# Altium schematic symbol library RICHTEK-DC-DC-Converters.SchLib: 8 symbols
Pins are listed as number, name and electrical type; pins without a type are passive.

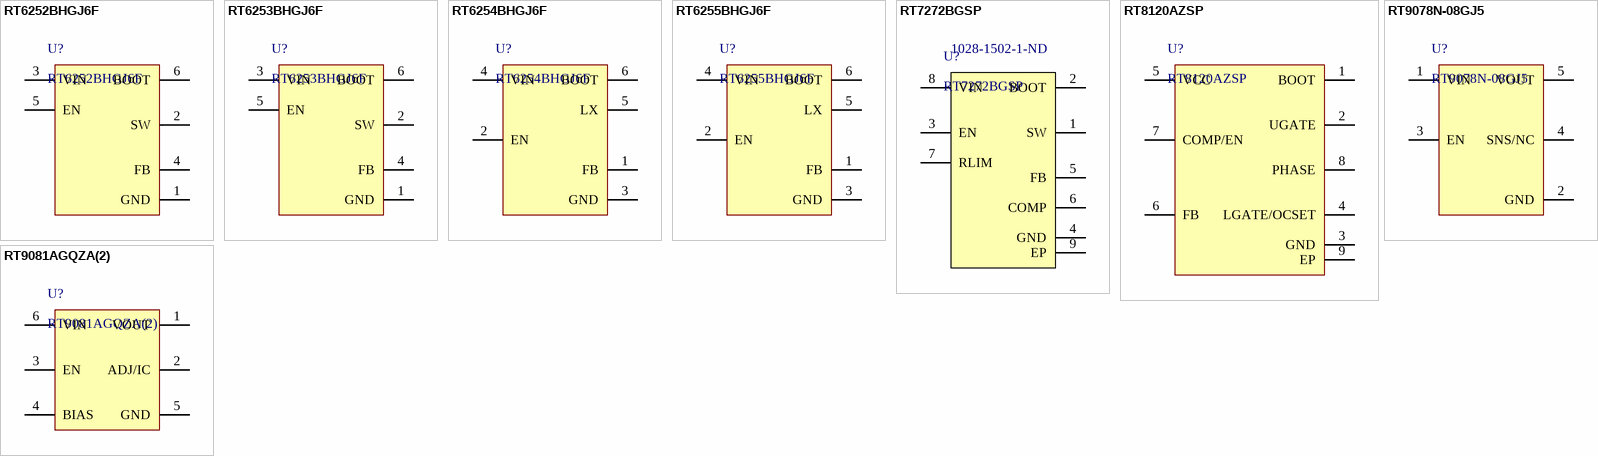
[diagram p0: symbols RT6252BHGJ6F to RT9081AGQZA(2)]

## RT6252BHGJ6F
designator U?
IC Reg Buck Adj 2A TSOT23-6; Manufacturer: Richtek; Supplier: DigiKey; Supplier Part Number: 1028-RT6252BHGJ6FCT-ND; Manufacturer Part Number: RT6252BHGJ6F; RoHS: Compliant; Category: Voltage Regulators - Switching; Stock: 86; Pricing: 1=0,55, 10=0,384, 25=0,344, 100=0,2992, 250=0,27788, 500=0,26506, 1000=0,25448, 3000=0,24142, 6000=0,23503, 9000=0,23183, 15000=0,22828, 21000=0,22621, 30000=0,22422 (USD); Lifecycle Status: Production; REACH SVHC: Yes; ComponentLink1URL: https://datasheet.octopart.com:443/RT6252BHGJ6F-Richtek-datasheet-181203810.pdf?src-supplier=IHS; ComponentLink1Description: https://datasheet.octopart.com:443/RT6252BHGJ6F-Richtek-datasheet-181203810.pdf?src-supplier=IHS
footprint SOT95P280X100-6N (SOT23, 6-Leads, Body 2,90x2,80mm, Pitch 0,95mm, IPC Medium Density)
pins: 1 GND, 2 SW, 3 VIN, 4 FB, 5 EN, 6 BOOT

## RT6253BHGJ6F
designator U?
Switching Regulator, Voltage-mode, 3A, 580kHz Switching Freq-Max, PDSO6; Manufacturer: Richtek; Max Supply Voltage: 17V; Max Output Voltage: 7V; Min Input Voltage: 4.5V; Min Output Voltage: 765mV; Nominal Supply Voltage: 12V; Number of Circuits: 1; Topology: Buck; Supplier: Mouser; Supplier Part Number: 835-RT6253BHGJ6F; Manufacturer Part Number: RT6253BHGJ6F; RoHS: Compliant; Category: Voltage Regulators - Switching; Stock: 5395; Pricing: 1=0,82, 10=0,584, 25=0,526, 50=0,526, 100=0,461, 250=0,431, 500=0,412, 1000=0,379, 3000=0,372, 6000=0,333, 10000=0,333 (USD); Height - Seated (Max): 1mm; Length: 2.8955mm; Lifecycle Status: Production; Max Operating Temperature: 125°C; Max Output current: 3A; Max Switching Frequency: 580kHz; Min Operating Temperature: -40°C; Number of Terminals: 6; REACH SVHC: Yes; Terminal Pitch: 950µm; Width: 1.6mm; ComponentLink1URL: https://datasheet.octopart.com:443/RT6253BHGJ6F-Richtek-datasheet-181203812.pdf?src-supplier=IHS; ComponentLink1Description: https://datasheet.octopart.com:443/RT6253BHGJ6F-Richtek-datasheet-181203812.pdf?src-supplier=IHS
footprint SOT95P280X100-6N (SOT23, 6-Leads, Body 2,90x2,80mm, Pitch 0,95mm, IPC Medium Density)
pins: 1 GND, 2 SW, 3 VIN, 4 FB, 5 EN, 6 BOOT

## RT6254BHGJ6F
designator U?
Switching Regulator, Voltage-mode, 4A, 600kHz Switching Freq-Max, PDSO6; Manufacturer: Richtek; Max Supply Voltage: 18V; Min Input Voltage: 4.5V; Nominal Supply Voltage: 12V; Number of Circuits: 1; Output Voltage: 5V; Topology: Buck; Supplier: DigiKey; Supplier Part Number: RT6254BHGJ6FCT-ND; Manufacturer Part Number: RT6254BHGJ6F; RoHS: Compliant; Category: Voltage Regulators - Switching; Stock: 7274; Pricing: 1=0,92, 10=0,66, 25=0,5948, 100=0,523, 250=0,48872, 500=0,46806, 1000=0,45108, 3000=0,43008, 6000=0,41981, 9000=0,41467, 15000=0,40897, 21000=0,40564 (USD); Height - Seated (Max): 1mm; Length: 2.8955mm; Lifecycle Status: Production; Max Operating Temperature: 85°C; Max Output current: 4A; Max Switching Frequency: 600kHz; Min Operating Temperature: -40°C; Number of Terminals: 6; Output Current: 4A; Packaging: Cut Tape; REACH SVHC: Yes; Terminal Pitch: 950µm; Width: 1.6mm; ComponentLink1URL: https://datasheet.octopart.com:443/RT6254BHGJ6F-Richtek-datasheet-181203814.pdf?src-supplier=IHS; ComponentLink1Description: https://datasheet.octopart.com:443/RT6254BHGJ6F-Richtek-datasheet-181203814.pdf?src-supplier=IHS; ComponentLink2URL: https://datasheet.octopart.com:443/RT6254BHGJ6F-Richtek-datasheet-68554526.pdf?src-supplier=element14+APAC; ComponentLink2Description: https://datasheet.octopart.com:443/RT6254BHGJ6F-Richtek-datasheet-68554526.pdf?src-supplier=element14+APAC; ComponentLink3URL: https://datasheet.octopart.com:443/RT6254BHGJ6F-Richtek-datasheet-68547092.pdf?src-supplier=element14+APAC; ComponentLink3Description: https://datasheet.octopart.com:443/RT6254BHGJ6F-Richtek-datasheet-68547092.pdf?src-supplier=element14+APAC; ComponentLink4URL: https://datasheet.octopart.com:443/RT6254BHGJ6F-Richtek-datasheet-160668474.pdf?src-supplier=Augswan; ComponentLink4Description: https://datasheet.octopart.com:443/RT6254BHGJ6F-Richtek-datasheet-160668474.pdf?src-supplier=Augswan; ComponentLink5URL: https://datasheet.octopart.com:443/RT6254BHGJ6F-Richtek-datasheet-157246478.pdf?src-supplier=LKR; ComponentLink5Description: https://datasheet.octopart.com:443/RT6254BHGJ6F-Richtek-datasheet-157246478.pdf?src-supplier=LKR
footprint SOT95P280X100-6N (SOT23, 6-Leads, Body 2,90x2,80mm, Pitch 0,95mm, IPC Medium Density)
pins: 1 FB, 2 EN, 3 GND, 4 VIN, 5 LX, 6 BOOT

## RT6255BHGJ6F
designator U?
Switching Regulator, 5A, 600kHz Switching Freq-Max, PDSO6; Manufacturer: Richtek; Max Supply Voltage: 18V; Max Output Voltage: 5V; Min Input Voltage: 4.5V; Min Output Voltage: 600mV; Nominal Supply Voltage: 12V; Number of Circuits: 1; Topology: Buck; Supplier: DigiKey; Supplier Part Number: RT6255BHGJ6FCT-ND; Manufacturer Part Number: RT6255BHGJ6F; RoHS: Compliant; Category: Voltage Regulators - Switching; Stock: 1662; Pricing: 1=1,07, 10=0,772, 25=0,6972, 100=0,6148, 250=0,57552, 500=0,55186, 1000=0,53237, 3000=0,50829, 6000=0,49651, 9000=0,49061, 15000=0,48407 (USD); Height - Seated (Max): 1mm; Length: 2.8955mm; Lifecycle Status: Production; Max Operating Temperature: 85°C; Max Output current: 5A; Max Switching Frequency: 600kHz; Min Operating Temperature: -40°C; Number of Terminals: 6; Output Current: 5A; Output Voltage: 5V; Packaging: Cut Tape; REACH SVHC: Yes; Terminal Pitch: 950µm; Width: 1.6mm; ComponentLink1URL: https://datasheet.octopart.com:443/RT6255BHGJ6F-Richtek-datasheet-181203815.pdf?src-supplier=IHS; ComponentLink1Description: https://datasheet.octopart.com:443/RT6255BHGJ6F-Richtek-datasheet-181203815.pdf?src-supplier=IHS; ComponentLink2URL: https://datasheet.octopart.com:443/RT6255BHGJ6F-Richtek-datasheet-68554527.pdf?src-supplier=element14+APAC; ComponentLink2Description: https://datasheet.octopart.com:443/RT6255BHGJ6F-Richtek-datasheet-68554527.pdf?src-supplier=element14+APAC; ComponentLink3URL: https://datasheet.octopart.com:443/RT6255BHGJ6F-Richtek-datasheet-68547093.pdf?src-supplier=element14+APAC; ComponentLink3Description: https://datasheet.octopart.com:443/RT6255BHGJ6F-Richtek-datasheet-68547093.pdf?src-supplier=element14+APAC; ComponentLink4URL: https://datasheet.octopart.com:443/RT6255BHGJ6F-Richtek-datasheet-159007979.pdf?src-supplier=Augswan; ComponentLink4Description: https://datasheet.octopart.com:443/RT6255BHGJ6F-Richtek-datasheet-159007979.pdf?src-supplier=Augswan
footprint SOT95P280X100-6N (SOT23, 6-Leads, Body 2,90x2,80mm, Pitch 0,95mm, IPC Medium Density)
pins: 1 FB, 2 EN, 3 GND, 4 VIN, 5 LX, 6 BOOT

## RT7272BGSP
designator U?  Supplier Part Number 1: 1028-1502-1-ND
Buck Switching Regulator IC Positive Adjustable 0.8V 1 Output 3A 8-SOIC (0.154, 3.90mm Width) Exposed Pad; Manufacturer: Richtek; Number of Outputs: 1; Min Input Voltage: 4.5V; Max Input Voltage: 36V; Min Output Voltage: 800mV; Max Output Voltage: 30V; Switching Frequency: 500kHz; Synchronous Rectifier: Yes; Supplier 1: Digi-Key; Manufacturer Part Number: RT7272BGSP; RoHS: No; Category: Voltage Regulators - Switching; Stock 1: 14857; Pricing 1: 1=0,98000, 10=0,87200, 25=0,82800, 100=0,68020, 250=0,63584, 500=0,56190, 1000=0,44361 (USD); Mount: Surface Mount; Case/Package: SOP; Number of Pins: 8; Min Operating Temperature: -40°C; Max Operating Temperature: 85°C; Output Current: 3A; Packaging: Tape and Reel; Output Voltage: 30V; Output Type: Adjustable; Output Configuration: Positive; REACH SVHC: Unknown; RoHS Compliant: Yes; ComponentLink1URL: https://datasheet.ciiva.com/28653/1790326-28653121.pdf?src-supplier=Element14; ComponentLink1Description: https://datasheet.ciiva.com/28653/1790326-28653121.pdf?src-supplier=Element14
footprint SOP127P600X175_HS-9N (SOP, 8-Leads, Body 4,90x3,91mm, Pitch 1,27mm, Thermal Pad 3,50x2,50mm, IPC Medium Density)
pins: 1 SW, 2 BOOT, 3 EN, 4 GND, 5 FB, 6 COMP, 7 RLIM, 8 VIN, 9 EP

## RT8120AZSP
designator U?
DC-DC 3V TO 13.2V, 330kHz Switching Freq-Max, PDSO8; Manufacturer: Richtek; Description: Switching Controller, Voltage-mode, 330kHz Switching Freq-Max, PDSO8; Supplier: DigiKey; Supplier Part Number: 1028-RT8120HGSPCT-ND; Manufacturer Part Number: RT8120AZSP; RoHS: Compliant; Category: Integrated Circuits (ICs); Stock: 2399; Pricing: 1=0,55, 10=0,386, 25=0,3452, 100=0,3004, 250=0,279, 500=0,2661, 1000=0,25548 (USD); Case/Package: SOP; Export Control Classification Number (ECCN) Code: EAR99; Harmonized Tariff Schedule (HTS) Code: 8542.39.00.60; Introduction Date: 2012-11-27; Lifecycle Status: Production; Max Operating Temperature: 85°C; Max Switching Frequency: 330kHz; Min Operating Temperature: -40°C; Number of Terminals: 8; REACH SVHC: Yes; Temperature Grade: Industrial; Terminal Pitch: 1.27mm; ComponentLink1URL: https://datasheet.octopart.com:443/RT8120HGSP-Richtek-datasheet-181204039.pdf?src-supplier=IHS; ComponentLink1Description: https://datasheet.octopart.com:443/RT8120HGSP-Richtek-datasheet-181204039.pdf?src-supplier=IHS; LCSC: C250419
footprint SOP127P600X175_HS-9N-ROUNDED (SOP, 8-Leads, Body 4,90x3,90mm, Pitch 1,27mm, Thermal Pad 2,30x2,30mm, IPC Medium Density)
pins: 1 BOOT, 2 UGATE, 3 GND, 4 LGATE/OCSET, 5 VCC, 6 FB, 7 COMP/EN, 8 PHASE, 9 EP

## RT9078N-08GJ5
designator U?
75dB@(1kHz) 300mA null 0.8V positive 5.5V TSOT-23-5 Linear Voltage Regulators (LDO) ROHS; Manufacturer: Richtek; Max Junction Temperature (Tj): 125°C; Min Input Voltage: 1.2V; Number of Circuits: 1; Output Type: Fixed; Voltage Tolerance: 2%; Supplier: DigiKey; Supplier Part Number: RT9078N-08GJ5CT-ND; Manufacturer Part Number: RT9078N-08GJ5; RoHS: Compliant; Category: LDO Voltage Regulators; Stock: 5944; Pricing: 1=0,22, 10=0,15, 25=0,1324, 100=0,1129, 250=0,10368, 500=0,0981, 1000=0,09351 (USD); Height - Seated (Max): 1mm; Length: 2.8955mm; Lifecycle Status: Production; Max Supply Voltage: 5.5V; Number of Outputs: 1; Number of Terminals: 5; Output Current: 300mA; Packaging: Cut Tape; REACH SVHC: Yes; Terminal Pitch: 939µm; Width: 1.6mm; ComponentLink1URL: https://datasheet.octopart.com:443/RT9078N-08GJ5-Richtek-datasheet-68547097.pdf?src-supplier=Newark; ComponentLink1Description: https://datasheet.octopart.com:443/RT9078N-08GJ5-Richtek-datasheet-68547097.pdf?src-supplier=Newark; ComponentLink2URL: https://datasheet.octopart.com:443/RT9078N-08GJ5-Richtek-datasheet-159008077.pdf?src-supplier=Augswan; ComponentLink2Description: https://datasheet.octopart.com:443/RT9078N-08GJ5-Richtek-datasheet-159008077.pdf?src-supplier=Augswan
footprint SOT95P280X100-5N (SOT23, 5-Leads, Body 2,90x2,80mm, Pitch 0,95mm, IPC Medium Density)
pins: 1 VIN, 2 GND, 3 EN, 4 SNS/NC, 5 VOUT

## RT9081AGQZA(2)
designator U?
Ldo, Adj, 0.5V To 3.6V, 0.5A, Dfn-6 Rohs Compliant: Yes |Richtek RT9081AGQZA(2); Max Junction Temperature (Tj): 125°C; Number of Circuits: 1; Output Current: 500mA; Output Type: Adjustable; Supplier: DigiKey; Supplier Part Number: RT9081AGQZACT-ND; Manufacturer: Richtek; Manufacturer Part Number: RT9081AGQZA(2); RoHS: Compliant; Category: LDO Voltage Regulators; Stock: 1768; Pricing: 1=0,92, 10=0,662, 25=0,5964, 100=0,5246, 250=0,49028, 500=0,46958, 1000=0,45253 (USD); Height - Seated (Max): 320µm; Length: 1.2mm; Lifecycle Status: Production; Number of Outputs: 1; Number of Terminals: 6; Packaging: Cut Tape; REACH SVHC: Yes; Terminal Pitch: 400µm; Width: 1.2mm; ComponentLink1URL: https://datasheet.octopart.com:443/RT9081AGQZA%282%29-Richtek-datasheet-181204270.pdf?src-supplier=IHS; ComponentLink1Description: https://datasheet.octopart.com:443/RT9081AGQZA%282%29-Richtek-datasheet-181204270.pdf?src-supplier=IHS; ComponentLink2URL: https://datasheet.octopart.com:443/RT9081AGQZA%282%29-Richtek-datasheet-82510570.pdf?src-supplier=Farnell; ComponentLink2Description: https://datasheet.octopart.com:443/RT9081AGQZA%282%29-Richtek-datasheet-82510570.pdf?src-supplier=Farnell; ComponentLink3URL: https://datasheet.octopart.com:443/RT9081AGQZA%282%29-Richtek-datasheet-163111755.pdf?src-supplier=SHENGYU+ELECTRONICS; ComponentLink3Description: https://datasheet.octopart.com:443/RT9081AGQZA%282%29-Richtek-datasheet-163111755.pdf?src-supplier=SHENGYU+ELECTRONICS
pins: 1 VOUT, 2 ADJ/IC, 3 EN, 4 BIAS, 5 GND, 6 VIN